# EAGLE library part SN74LVC2G04DBVR (library SN74LVC2G04DBVR)
DUAL INVERTER GATE Source: Datasheet <http://www.ti.com/lit/gpn/sn74lvc2g04>
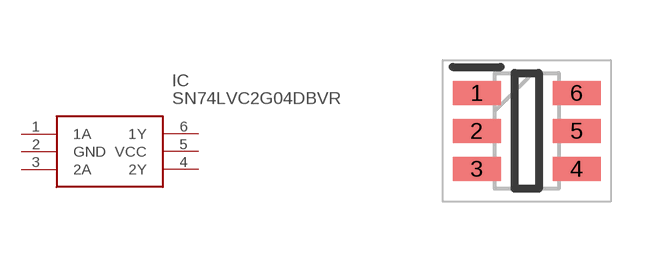
[diagram p0: symbol with the pads of SOT95P280X145-6N; footprint SOT95P280X145-6N]

Designator prefix IC

## SN74LVC2G04DBVR (Description: DUAL INVERTER GATE; Height: 1.45mm; Manufacturer_Name: Texas Instruments; Manufacturer_Part_Number: SN74LVC2G04DBVR; Mouser_Part_Number: 595-SN74LVC2G04DBVR; Mouser_Price-Stock: https://www.mouser.co.uk/ProductDetail/Texas-Instruments/SN74LVC2G04DBVR?qs=HE9hdJajmeqXJJ9RII89dg%3D%3D)  [SOT95P280X145-6N]
1  1A
2  GND
3  2A
4  2Y
5  VCC
6  1Y

## Footprint SOT95P280X145-6N (pad centres in mm)
DBV0006A
smd 1.2 x 0.6: 1 -1.25,0.95; 2 -1.25,0; 3 -1.25,-0.95; 4 1.25,-0.95; 5 1.25,0; 6 1.25,0.95